# EAGLE library part 74*62 (library dec-con)
3-2-2-3 Gate Expander
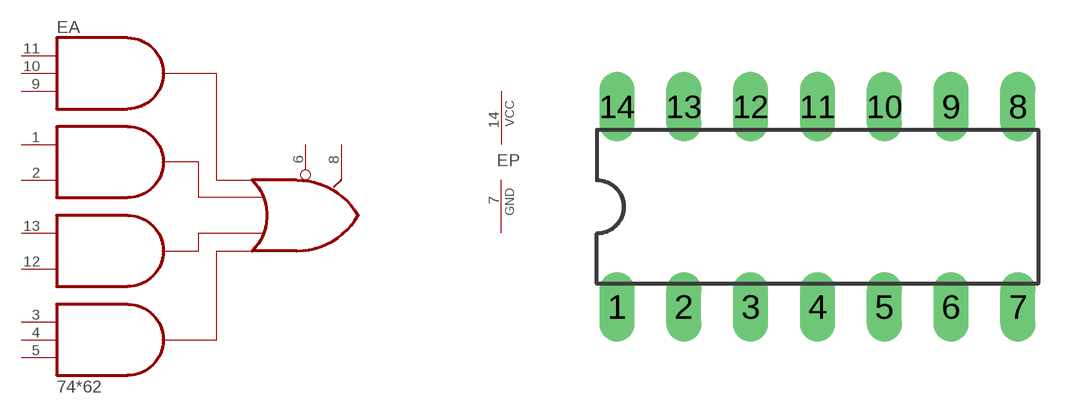
[diagram p97: symbol with the pads of DIL14; footprint DIL14]

Designator prefix E; gates A=7462 P=PWRN

## 7462  [DIL14]
1  A:I4  in
2  A:I5  in
3  A:I8  in
4  A:I9  in
5  A:I10  in
6  A:E0  pas
7  P:GND  pwr
8  A:E1  pas
9  A:I3  in
10  A:I2  in
11  A:I1  in
12  A:I7  in
13  A:I6  in
14  P:VCC  pwr

## Footprint DIL14 (pad centres in mm)
Dual In Line Package
drill 0.813 long: 1 -7.62,-3.81; 2 -5.08,-3.81; 3 -2.54,-3.81; 4 0,-3.81; 5 2.54,-3.81; 6 5.08,-3.81; 7 7.62,-3.81; 8 7.62,3.81; 9 5.08,3.81; 10 2.54,3.81; 11 0,3.81; 12 -2.54,3.81; 13 -5.08,3.81; 14 -7.62,3.81